# Altium schematic symbol library jlcpcb_capacitors_basic.schlib: 134 symbols (part 1 of 3)
Pins are listed as number, name and electrical type; pins without a type are passive.

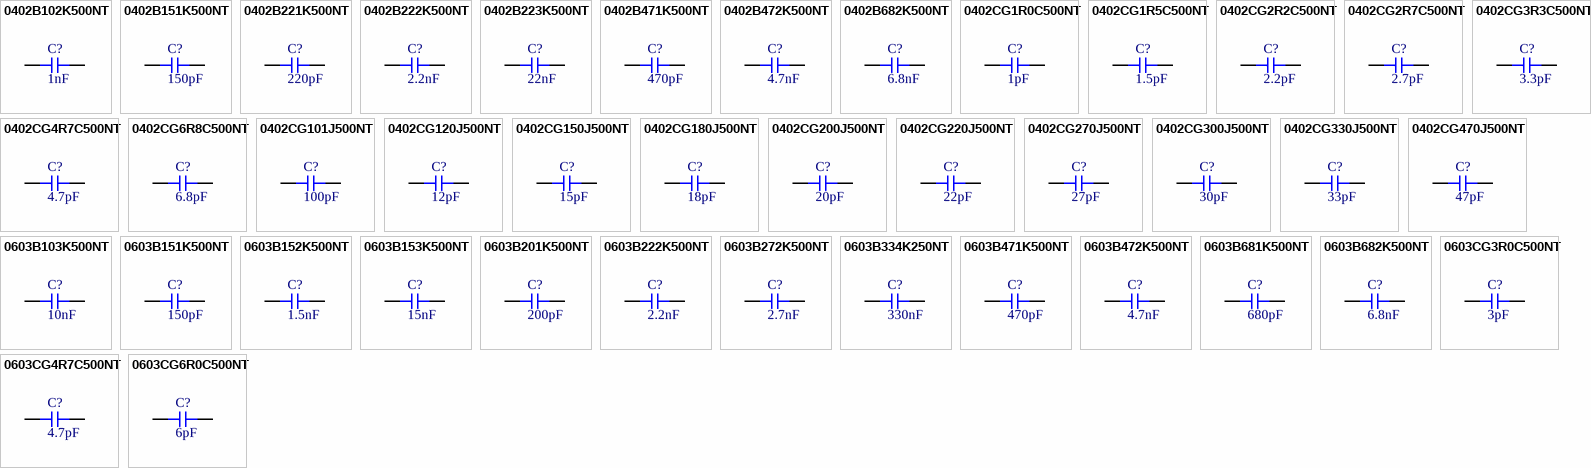
[diagram p0: symbols 0402B102K500NT to 0603CG6R0C500NT]

## 0402B102K500NT
designator C?  Capacitance: 1nF  (hidden comment: *)
Capacitor, Ceramic (MLCC), 1nF, ±10%, 50V, X7R, ±10%, SMD 0402; Manufacturer: FH(Guangdong Fenghua Advanced Tech); Manufacturer Part Number: 0402B102K500NT; Package Size: 0402; JLCPCB Basic Part: Yes; JLCPCB Part Number: C1523; Supplier 1: LCSC; Category: Capacitors - MLCC; Supplier Part Number 1: C1523; Tolerance: ±10%; Voltage Rating: 50V; Temperature Coefficient: X7R; RoHS: Yes; ComponentLink1Description: Datasheet; ComponentLink1URL: https://datasheet.lcsc.com/lcsc/1809291524_FH--Guangdong-Fenghua-Advanced-Tech-0402B102K500NT_C1523.pdf; ComponentLink2Description: JLCPCB Part URL; ComponentLink2URL: https://jlcpcb.com/partdetail/C1523; ComponentLink3Description: LCSC Part URL; ComponentLink3URL: https://lcsc.com/product-detail/Multilayer-Ceramic-Capacitors-MLCC---SMD-SMT_FH-Guangdong-Fenghua-Advanced-Tech-FH-Guangdong-Fenghua-Advanced-Tech-0402B102K500NT_C1523.html
footprint CAP-0402 (0402 (1005M) Capacitor)
pins: 1, 2

## 0402B151K500NT
designator C?  Capacitance: 150pF  (hidden comment: *)
Capacitor, Ceramic (MLCC), 150pF, ±10%, 50V, X7R, ±10%, SMD 0402; Manufacturer: FH(Guangdong Fenghua Advanced Tech); Manufacturer Part Number: 0402B151K500NT; Package Size: 0402; JLCPCB Basic Part: Yes; JLCPCB Part Number: C1527; Supplier 1: LCSC; Category: Capacitors - MLCC; Supplier Part Number 1: C1527; Tolerance: ±10%; Voltage Rating: 50V; Temperature Coefficient: X7R; RoHS: Yes; ComponentLink1Description: Datasheet; ComponentLink1URL: https://datasheet.lcsc.com/lcsc/1810302110_FH--Guangdong-Fenghua-Advanced-Tech-0402B151K500NT_C1527.pdf; ComponentLink2Description: JLCPCB Part URL; ComponentLink2URL: https://jlcpcb.com/partdetail/C1527; ComponentLink3Description: LCSC Part URL; ComponentLink3URL: https://lcsc.com/product-detail/Multilayer-Ceramic-Capacitors-MLCC---SMD-SMT_FH-Guangdong-Fenghua-Advanced-Tech-FH-Guangdong-Fenghua-Advanced-Tech-0402B151K500NT_C1527.html
footprint CAP-0402 (0402 (1005M) Capacitor)
pins: 1, 2

## 0402B221K500NT
designator C?  Capacitance: 220pF  (hidden comment: *)
Capacitor, Ceramic (MLCC), 220pF, ±10%, 50V, X7R, ±10%, SMD 0402; Manufacturer: FH(Guangdong Fenghua Advanced Tech); Manufacturer Part Number: 0402B221K500NT; Package Size: 0402; JLCPCB Basic Part: Yes; JLCPCB Part Number: C1530; Supplier 1: LCSC; Category: Capacitors - MLCC; Supplier Part Number 1: C1530; Tolerance: ±10%; Voltage Rating: 50V; Temperature Coefficient: X7R; RoHS: Yes; ComponentLink1Description: Datasheet; ComponentLink1URL: https://datasheet.lcsc.com/lcsc/1811151132_FH--Guangdong-Fenghua-Advanced-Tech-0402B221K500NT_C1530.pdf; ComponentLink2Description: JLCPCB Part URL; ComponentLink2URL: https://jlcpcb.com/partdetail/C1530; ComponentLink3Description: LCSC Part URL; ComponentLink3URL: https://lcsc.com/product-detail/Multilayer-Ceramic-Capacitors-MLCC---SMD-SMT_FH-Guangdong-Fenghua-Advanced-Tech-FH-Guangdong-Fenghua-Advanced-Tech-0402B221K500NT_C1530.html
footprint CAP-0402 (0402 (1005M) Capacitor)
pins: 1, 2

## 0402B222K500NT
designator C?  Capacitance: 2.2nF  (hidden comment: *)
Capacitor, Ceramic (MLCC), 2.2nF, ±10%, 50V, X7R, ±10%, SMD 0402; Manufacturer: FH(Guangdong Fenghua Advanced Tech); Manufacturer Part Number: 0402B222K500NT; Package Size: 0402; JLCPCB Basic Part: Yes; JLCPCB Part Number: C1531; Supplier 1: LCSC; Category: Capacitors - MLCC; Supplier Part Number 1: C1531; Tolerance: ±10%; Voltage Rating: 50V; Temperature Coefficient: X7R; RoHS: Yes; ComponentLink1Description: Datasheet; ComponentLink1URL: https://datasheet.lcsc.com/lcsc/1811141710_FH--Guangdong-Fenghua-Advanced-Tech-0402B222K500NT_C1531.pdf; ComponentLink2Description: JLCPCB Part URL; ComponentLink2URL: https://jlcpcb.com/partdetail/C1531; ComponentLink3Description: LCSC Part URL; ComponentLink3URL: https://lcsc.com/product-detail/Multilayer-Ceramic-Capacitors-MLCC---SMD-SMT_FH-Guangdong-Fenghua-Advanced-Tech-FH-Guangdong-Fenghua-Advanced-Tech-0402B222K500NT_C1531.html
footprint CAP-0402 (0402 (1005M) Capacitor)
pins: 1, 2

## 0402B223K500NT
designator C?  Capacitance: 22nF  (hidden comment: *)
Capacitor, Ceramic (MLCC), 22nF, ±10%, 50V, X7R, ±10%, SMD 0402; Manufacturer: FH(Guangdong Fenghua Advanced Tech); Manufacturer Part Number: 0402B223K500NT; Package Size: 0402; JLCPCB Basic Part: Yes; JLCPCB Part Number: C1532; Supplier 1: LCSC; Category: Capacitors - MLCC; Supplier Part Number 1: C1532; Tolerance: ±10%; Voltage Rating: 50V; Temperature Coefficient: X7R; RoHS: Yes; ComponentLink1Description: Datasheet; ComponentLink1URL: https://datasheet.lcsc.com/lcsc/1811141710_FH--Guangdong-Fenghua-Advanced-Tech-0402B223K500NT_C1532.pdf; ComponentLink2Description: JLCPCB Part URL; ComponentLink2URL: https://jlcpcb.com/partdetail/C1532; ComponentLink3Description: LCSC Part URL; ComponentLink3URL: https://lcsc.com/product-detail/Multilayer-Ceramic-Capacitors-MLCC---SMD-SMT_FH-Guangdong-Fenghua-Advanced-Tech-FH-Guangdong-Fenghua-Advanced-Tech-0402B223K500NT_C1532.html
footprint CAP-0402 (0402 (1005M) Capacitor)
pins: 1, 2

## 0402B471K500NT
designator C?  Capacitance: 470pF  (hidden comment: *)
Capacitor, Ceramic (MLCC), 470pF, ±10%, 50V, X7R, ±10%, SMD 0402; Manufacturer: FH(Guangdong Fenghua Advanced Tech); Manufacturer Part Number: 0402B471K500NT; Package Size: 0402; JLCPCB Basic Part: Yes; JLCPCB Part Number: C1537; Supplier 1: LCSC; Category: Capacitors - MLCC; Supplier Part Number 1: C1537; Tolerance: ±10%; Voltage Rating: 50V; Temperature Coefficient: X7R; RoHS: Yes; ComponentLink1Description: Datasheet; ComponentLink1URL: https://datasheet.lcsc.com/lcsc/1811141710_FH--Guangdong-Fenghua-Advanced-Tech-0402B471K500NT_C1537.pdf; ComponentLink2Description: JLCPCB Part URL; ComponentLink2URL: https://jlcpcb.com/partdetail/C1537; ComponentLink3Description: LCSC Part URL; ComponentLink3URL: https://lcsc.com/product-detail/Multilayer-Ceramic-Capacitors-MLCC---SMD-SMT_FH-Guangdong-Fenghua-Advanced-Tech-FH-Guangdong-Fenghua-Advanced-Tech-0402B471K500NT_C1537.html
footprint CAP-0402 (0402 (1005M) Capacitor)
pins: 1, 2

## 0402B472K500NT
designator C?  Capacitance: 4.7nF  (hidden comment: *)
Capacitor, Ceramic (MLCC), 4.7nF, ±10%, 50V, X7R, ±10%, SMD 0402; Manufacturer: FH(Guangdong Fenghua Advanced Tech); Manufacturer Part Number: 0402B472K500NT; Package Size: 0402; JLCPCB Basic Part: Yes; JLCPCB Part Number: C1538; Supplier 1: LCSC; Category: Capacitors - MLCC; Supplier Part Number 1: C1538; Tolerance: ±10%; Voltage Rating: 50V; Temperature Coefficient: X7R; RoHS: Yes; ComponentLink1Description: Datasheet; ComponentLink1URL: https://datasheet.lcsc.com/lcsc/1811031110_FH--Guangdong-Fenghua-Advanced-Tech-0402B472K500NT_C1538.pdf; ComponentLink2Description: JLCPCB Part URL; ComponentLink2URL: https://jlcpcb.com/partdetail/C1538; ComponentLink3Description: LCSC Part URL; ComponentLink3URL: https://lcsc.com/product-detail/Multilayer-Ceramic-Capacitors-MLCC---SMD-SMT_FH-Guangdong-Fenghua-Advanced-Tech-FH-Guangdong-Fenghua-Advanced-Tech-0402B472K500NT_C1538.html
footprint CAP-0402 (0402 (1005M) Capacitor)
pins: 1, 2

## 0402B682K500NT
designator C?  Capacitance: 6.8nF  (hidden comment: *)
Capacitor, Ceramic (MLCC), 6.8nF, ±10%, 50V, X7R, ±10%, SMD 0402; Manufacturer: FH(Guangdong Fenghua Advanced Tech); Manufacturer Part Number: 0402B682K500NT; Package Size: 0402; JLCPCB Basic Part: Yes; JLCPCB Part Number: C1542; Supplier 1: LCSC; Category: Capacitors - MLCC; Supplier Part Number 1: C1542; Tolerance: ±10%; Voltage Rating: 50V; Temperature Coefficient: X7R; RoHS: Yes; ComponentLink1Description: Datasheet; ComponentLink1URL: https://datasheet.lcsc.com/lcsc/1811141710_FH--Guangdong-Fenghua-Advanced-Tech-0402B682K500NT_C1542.pdf; ComponentLink2Description: JLCPCB Part URL; ComponentLink2URL: https://jlcpcb.com/partdetail/C1542; ComponentLink3Description: LCSC Part URL; ComponentLink3URL: https://lcsc.com/product-detail/Multilayer-Ceramic-Capacitors-MLCC---SMD-SMT_FH-Guangdong-Fenghua-Advanced-Tech-FH-Guangdong-Fenghua-Advanced-Tech-0402B682K500NT_C1542.html
footprint CAP-0402 (0402 (1005M) Capacitor)
pins: 1, 2

## 0402CG1R0C500NT
designator C?  Capacitance: 1pF  (hidden comment: *)
Capacitor, Ceramic (MLCC), 1pF, ±0.25pF, 50V, C0G, ±0.25pF, SMD 0402; Manufacturer: FH(Guangdong Fenghua Advanced Tech); Manufacturer Part Number: 0402CG1R0C500NT; Package Size: 0402; JLCPCB Basic Part: Yes; JLCPCB Part Number: C1550; Supplier 1: LCSC; Category: Capacitors - MLCC; Supplier Part Number 1: C1550; Tolerance: ±0.25pF; Voltage Rating: 50V; Temperature Coefficient: C0G; RoHS: Yes; ComponentLink1Description: Datasheet; ComponentLink1URL: https://datasheet.lcsc.com/lcsc/1811141710_FH--Guangdong-Fenghua-Advanced-Tech-0402CG1R0C500NT_C1550.pdf; ComponentLink2Description: JLCPCB Part URL; ComponentLink2URL: https://jlcpcb.com/partdetail/C1550; ComponentLink3Description: LCSC Part URL; ComponentLink3URL: https://lcsc.com/product-detail/Multilayer-Ceramic-Capacitors-MLCC---SMD-SMT_FH-Guangdong-Fenghua-Advanced-Tech-FH-Guangdong-Fenghua-Advanced-Tech-0402CG1R0C500NT_C1550.html
footprint CAP-0402 (0402 (1005M) Capacitor)
pins: 1, 2

## 0402CG1R5C500NT
designator C?  Capacitance: 1.5pF  (hidden comment: *)
Capacitor, Ceramic (MLCC), 1.5pF, ±0.25pF, 50V, C0G, ±0.25pF, SMD 0402; Manufacturer: FH(Guangdong Fenghua Advanced Tech); Manufacturer Part Number: 0402CG1R5C500NT; Package Size: 0402; JLCPCB Basic Part: Yes; JLCPCB Part Number: C1552; Supplier 1: LCSC; Category: Capacitors - MLCC; Supplier Part Number 1: C1552; Tolerance: ±0.25pF; Voltage Rating: 50V; Temperature Coefficient: C0G; RoHS: Yes; ComponentLink1Description: Datasheet; ComponentLink1URL: https://datasheet.lcsc.com/lcsc/1811151132_FH--Guangdong-Fenghua-Advanced-Tech-0402CG1R5C500NT_C1552.pdf; ComponentLink2Description: JLCPCB Part URL; ComponentLink2URL: https://jlcpcb.com/partdetail/C1552; ComponentLink3Description: LCSC Part URL; ComponentLink3URL: https://lcsc.com/product-detail/Multilayer-Ceramic-Capacitors-MLCC---SMD-SMT_FH-Guangdong-Fenghua-Advanced-Tech-FH-Guangdong-Fenghua-Advanced-Tech-0402CG1R5C500NT_C1552.html
footprint CAP-0402 (0402 (1005M) Capacitor)
pins: 1, 2

## 0402CG2R2C500NT
designator C?  Capacitance: 2.2pF  (hidden comment: *)
Capacitor, Ceramic (MLCC), 2.2pF, ±0.25pF, 50V, C0G, ±0.25pF, SMD 0402; Manufacturer: FH(Guangdong Fenghua Advanced Tech); Manufacturer Part Number: 0402CG2R2C500NT; Package Size: 0402; JLCPCB Basic Part: Yes; JLCPCB Part Number: C1559; Supplier 1: LCSC; Category: Capacitors - MLCC; Supplier Part Number 1: C1559; Tolerance: ±0.25pF; Voltage Rating: 50V; Temperature Coefficient: C0G; RoHS: Yes; ComponentLink1Description: Datasheet; ComponentLink1URL: https://datasheet.lcsc.com/lcsc/1811141843_FH--Guangdong-Fenghua-Advanced-Tech-0402CG2R2C500NT_C1559.pdf; ComponentLink2Description: JLCPCB Part URL; ComponentLink2URL: https://jlcpcb.com/partdetail/C1559; ComponentLink3Description: LCSC Part URL; ComponentLink3URL: https://lcsc.com/product-detail/Multilayer-Ceramic-Capacitors-MLCC---SMD-SMT_FH-Guangdong-Fenghua-Advanced-Tech-FH-Guangdong-Fenghua-Advanced-Tech-0402CG2R2C500NT_C1559.html
footprint CAP-0402 (0402 (1005M) Capacitor)
pins: 1, 2

## 0402CG2R7C500NT
designator C?  Capacitance: 2.7pF  (hidden comment: *)
Capacitor, Ceramic (MLCC), 2.7pF, ±0.25pF, 50V, C0G, ±0.25pF, SMD 0402; Manufacturer: FH(Guangdong Fenghua Advanced Tech); Manufacturer Part Number: 0402CG2R7C500NT; Package Size: 0402; JLCPCB Basic Part: Yes; JLCPCB Part Number: C1561; Supplier 1: LCSC; Category: Capacitors - MLCC; Supplier Part Number 1: C1561; Tolerance: ±0.25pF; Voltage Rating: 50V; Temperature Coefficient: C0G; RoHS: Yes; ComponentLink1Description: Datasheet; ComponentLink1URL: https://datasheet.lcsc.com/lcsc/1811141710_FH--Guangdong-Fenghua-Advanced-Tech-0402CG2R7C500NT_C1561.pdf; ComponentLink2Description: JLCPCB Part URL; ComponentLink2URL: https://jlcpcb.com/partdetail/C1561; ComponentLink3Description: LCSC Part URL; ComponentLink3URL: https://lcsc.com/product-detail/Multilayer-Ceramic-Capacitors-MLCC---SMD-SMT_FH-Guangdong-Fenghua-Advanced-Tech-FH-Guangdong-Fenghua-Advanced-Tech-0402CG2R7C500NT_C1561.html
footprint CAP-0402 (0402 (1005M) Capacitor)
pins: 1, 2

## 0402CG3R3C500NT
designator C?  Capacitance: 3.3pF  (hidden comment: *)
Capacitor, Ceramic (MLCC), 3.3pF, ±0.25pF, 50V, C0G, ±0.25pF, SMD 0402; Manufacturer: FH(Guangdong Fenghua Advanced Tech); Manufacturer Part Number: 0402CG3R3C500NT; Package Size: 0402; JLCPCB Basic Part: Yes; JLCPCB Part Number: C1565; Supplier 1: LCSC; Category: Capacitors - MLCC; Supplier Part Number 1: C1565; Tolerance: ±0.25pF; Voltage Rating: 50V; Temperature Coefficient: C0G; RoHS: Yes; ComponentLink1Description: Datasheet; ComponentLink1URL: https://datasheet.lcsc.com/lcsc/1811141710_FH--Guangdong-Fenghua-Advanced-Tech-0402CG3R3C500NT_C1565.pdf; ComponentLink2Description: JLCPCB Part URL; ComponentLink2URL: https://jlcpcb.com/partdetail/C1565; ComponentLink3Description: LCSC Part URL; ComponentLink3URL: https://lcsc.com/product-detail/Multilayer-Ceramic-Capacitors-MLCC---SMD-SMT_FH-Guangdong-Fenghua-Advanced-Tech-FH-Guangdong-Fenghua-Advanced-Tech-0402CG3R3C500NT_C1565.html
footprint CAP-0402 (0402 (1005M) Capacitor)
pins: 1, 2

## 0402CG4R7C500NT
designator C?  Capacitance: 4.7pF  (hidden comment: *)
Capacitor, Ceramic (MLCC), 4.7pF, ±0.25pF, 50V, C0G, ±0.25pF, SMD 0402; Manufacturer: FH(Guangdong Fenghua Advanced Tech); Manufacturer Part Number: 0402CG4R7C500NT; Package Size: 0402; JLCPCB Basic Part: Yes; JLCPCB Part Number: C1569; Supplier 1: LCSC; Category: Capacitors - MLCC; Supplier Part Number 1: C1569; Tolerance: ±0.25pF; Voltage Rating: 50V; Temperature Coefficient: C0G; RoHS: Yes; ComponentLink1Description: Datasheet; ComponentLink1URL: https://datasheet.lcsc.com/lcsc/1811141710_FH--Guangdong-Fenghua-Advanced-Tech-0402CG4R7C500NT_C1569.pdf; ComponentLink2Description: JLCPCB Part URL; ComponentLink2URL: https://jlcpcb.com/partdetail/C1569; ComponentLink3Description: LCSC Part URL; ComponentLink3URL: https://lcsc.com/product-detail/Multilayer-Ceramic-Capacitors-MLCC---SMD-SMT_FH-Guangdong-Fenghua-Advanced-Tech-FH-Guangdong-Fenghua-Advanced-Tech-0402CG4R7C500NT_C1569.html
footprint CAP-0402 (0402 (1005M) Capacitor)
pins: 1, 2

## 0402CG6R8C500NT
designator C?  Capacitance: 6.8pF  (hidden comment: *)
Capacitor, Ceramic (MLCC), 6.8pF, ±0.25pF, 50V, C0G, ±0.25pF, SMD 0402; Manufacturer: FH(Guangdong Fenghua Advanced Tech); Manufacturer Part Number: 0402CG6R8C500NT; Package Size: 0402; JLCPCB Basic Part: Yes; JLCPCB Part Number: C1576; Supplier 1: LCSC; Category: Capacitors - MLCC; Supplier Part Number 1: C1576; Tolerance: ±0.25pF; Voltage Rating: 50V; Temperature Coefficient: C0G; RoHS: Yes; ComponentLink1Description: Datasheet; ComponentLink1URL: https://datasheet.lcsc.com/lcsc/1811141710_FH--Guangdong-Fenghua-Advanced-Tech-0402CG6R8C500NT_C1576.pdf; ComponentLink2Description: JLCPCB Part URL; ComponentLink2URL: https://jlcpcb.com/partdetail/C1576; ComponentLink3Description: LCSC Part URL; ComponentLink3URL: https://lcsc.com/product-detail/Multilayer-Ceramic-Capacitors-MLCC---SMD-SMT_FH-Guangdong-Fenghua-Advanced-Tech-FH-Guangdong-Fenghua-Advanced-Tech-0402CG6R8C500NT_C1576.html
footprint CAP-0402 (0402 (1005M) Capacitor)
pins: 1, 2

## 0402CG101J500NT
designator C?  Capacitance: 100pF  (hidden comment: *)
Capacitor, Ceramic (MLCC), 100pF, ±5%, 50V, C0G, ±5%, SMD 0402; Manufacturer: FH(Guangdong Fenghua Advanced Tech); Manufacturer Part Number: 0402CG101J500NT; Package Size: 0402; JLCPCB Basic Part: Yes; JLCPCB Part Number: C1546; Supplier 1: LCSC; Category: Capacitors - MLCC; Supplier Part Number 1: C1546; Tolerance: ±5%; Voltage Rating: 50V; Temperature Coefficient: C0G; RoHS: Yes; ComponentLink1Description: Datasheet; ComponentLink1URL: https://datasheet.lcsc.com/lcsc/1810151218_FH--Guangdong-Fenghua-Advanced-Tech-0402CG101J500NT_C1546.pdf; ComponentLink2Description: JLCPCB Part URL; ComponentLink2URL: https://jlcpcb.com/partdetail/C1546; ComponentLink3Description: LCSC Part URL; ComponentLink3URL: https://lcsc.com/product-detail/Multilayer-Ceramic-Capacitors-MLCC---SMD-SMT_FH-Guangdong-Fenghua-Advanced-Tech-FH-Guangdong-Fenghua-Advanced-Tech-0402CG101J500NT_C1546.html
footprint CAP-0402 (0402 (1005M) Capacitor)
pins: 1, 2

## 0402CG120J500NT
designator C?  Capacitance: 12pF  (hidden comment: *)
Capacitor, Ceramic (MLCC), 12pF, ±5%, 50V, C0G, ±5%, SMD 0402; Manufacturer: FH(Guangdong Fenghua Advanced Tech); Manufacturer Part Number: 0402CG120J500NT; Package Size: 0402; JLCPCB Basic Part: Yes; JLCPCB Part Number: C1547; Supplier 1: LCSC; Category: Capacitors - MLCC; Supplier Part Number 1: C1547; Tolerance: ±5%; Voltage Rating: 50V; Temperature Coefficient: C0G; RoHS: Yes; ComponentLink1Description: Datasheet; ComponentLink1URL: https://datasheet.lcsc.com/lcsc/1811141710_FH--Guangdong-Fenghua-Advanced-Tech-0402CG120J500NT_C1547.pdf; ComponentLink2Description: JLCPCB Part URL; ComponentLink2URL: https://jlcpcb.com/partdetail/C1547; ComponentLink3Description: LCSC Part URL; ComponentLink3URL: https://lcsc.com/product-detail/Multilayer-Ceramic-Capacitors-MLCC---SMD-SMT_FH-Guangdong-Fenghua-Advanced-Tech-FH-Guangdong-Fenghua-Advanced-Tech-0402CG120J500NT_C1547.html
footprint CAP-0402 (0402 (1005M) Capacitor)
pins: 1, 2

## 0402CG150J500NT
designator C?  Capacitance: 15pF  (hidden comment: *)
Capacitor, Ceramic (MLCC), 15pF, ±5%, 50V, C0G, ±5%, SMD 0402; Manufacturer: FH(Guangdong Fenghua Advanced Tech); Manufacturer Part Number: 0402CG150J500NT; Package Size: 0402; JLCPCB Basic Part: Yes; JLCPCB Part Number: C1548; Supplier 1: LCSC; Category: Capacitors - MLCC; Supplier Part Number 1: C1548; Tolerance: ±5%; Voltage Rating: 50V; Temperature Coefficient: C0G; RoHS: Yes; ComponentLink1Description: Datasheet; ComponentLink1URL: https://datasheet.lcsc.com/lcsc/1810111610_FH--Guangdong-Fenghua-Advanced-Tech-0402CG150J500NT_C1548.pdf; ComponentLink2Description: JLCPCB Part URL; ComponentLink2URL: https://jlcpcb.com/partdetail/C1548; ComponentLink3Description: LCSC Part URL; ComponentLink3URL: https://lcsc.com/product-detail/Multilayer-Ceramic-Capacitors-MLCC---SMD-SMT_FH-Guangdong-Fenghua-Advanced-Tech-FH-Guangdong-Fenghua-Advanced-Tech-0402CG150J500NT_C1548.html
footprint CAP-0402 (0402 (1005M) Capacitor)
pins: 1, 2

## 0402CG180J500NT
designator C?  Capacitance: 18pF  (hidden comment: *)
Capacitor, Ceramic (MLCC), 18pF, ±5%, 50V, C0G, ±5%, SMD 0402; Manufacturer: FH(Guangdong Fenghua Advanced Tech); Manufacturer Part Number: 0402CG180J500NT; Package Size: 0402; JLCPCB Basic Part: Yes; JLCPCB Part Number: C1549; Supplier 1: LCSC; Category: Capacitors - MLCC; Supplier Part Number 1: C1549; Tolerance: ±5%; Voltage Rating: 50V; Temperature Coefficient: C0G; RoHS: Yes; ComponentLink1Description: Datasheet; ComponentLink1URL: https://datasheet.lcsc.com/lcsc/1811141814_FH--Guangdong-Fenghua-Advanced-Tech-0402CG180J500NT_C1549.pdf; ComponentLink2Description: JLCPCB Part URL; ComponentLink2URL: https://jlcpcb.com/partdetail/C1549; ComponentLink3Description: LCSC Part URL; ComponentLink3URL: https://lcsc.com/product-detail/Multilayer-Ceramic-Capacitors-MLCC---SMD-SMT_FH-Guangdong-Fenghua-Advanced-Tech-FH-Guangdong-Fenghua-Advanced-Tech-0402CG180J500NT_C1549.html
footprint CAP-0402 (0402 (1005M) Capacitor)
pins: 1, 2

## 0402CG200J500NT
designator C?  Capacitance: 20pF  (hidden comment: *)
Capacitor, Ceramic (MLCC), 20pF, ±5%, 50V, C0G, ±5%, SMD 0402; Manufacturer: FH(Guangdong Fenghua Advanced Tech); Manufacturer Part Number: 0402CG200J500NT; Package Size: 0402; JLCPCB Basic Part: Yes; JLCPCB Part Number: C1554; Supplier 1: LCSC; Category: Capacitors - MLCC; Supplier Part Number 1: C1554; Tolerance: ±5%; Voltage Rating: 50V; Temperature Coefficient: C0G; RoHS: Yes; ComponentLink1Description: Datasheet; ComponentLink1URL: https://datasheet.lcsc.com/lcsc/1811141710_FH--Guangdong-Fenghua-Advanced-Tech-0402CG200J500NT_C1554.pdf; ComponentLink2Description: JLCPCB Part URL; ComponentLink2URL: https://jlcpcb.com/partdetail/C1554; ComponentLink3Description: LCSC Part URL; ComponentLink3URL: https://lcsc.com/product-detail/Multilayer-Ceramic-Capacitors-MLCC---SMD-SMT_FH-Guangdong-Fenghua-Advanced-Tech-FH-Guangdong-Fenghua-Advanced-Tech-0402CG200J500NT_C1554.html
footprint CAP-0402 (0402 (1005M) Capacitor)
pins: 1, 2

## 0402CG220J500NT
designator C?  Capacitance: 22pF  (hidden comment: *)
Capacitor, Ceramic (MLCC), 22pF, ±5%, 50V, C0G, ±5%, SMD 0402; Manufacturer: FH(Guangdong Fenghua Advanced Tech); Manufacturer Part Number: 0402CG220J500NT; Package Size: 0402; JLCPCB Basic Part: Yes; JLCPCB Part Number: C1555; Supplier 1: LCSC; Category: Capacitors - MLCC; Supplier Part Number 1: C1555; Tolerance: ±5%; Voltage Rating: 50V; Temperature Coefficient: C0G; RoHS: Yes; ComponentLink1Description: Datasheet; ComponentLink1URL: https://datasheet.lcsc.com/lcsc/1811141710_FH--Guangdong-Fenghua-Advanced-Tech-0402CG220J500NT_C1555.pdf; ComponentLink2Description: JLCPCB Part URL; ComponentLink2URL: https://jlcpcb.com/partdetail/C1555; ComponentLink3Description: LCSC Part URL; ComponentLink3URL: https://lcsc.com/product-detail/Multilayer-Ceramic-Capacitors-MLCC---SMD-SMT_FH-Guangdong-Fenghua-Advanced-Tech-FH-Guangdong-Fenghua-Advanced-Tech-0402CG220J500NT_C1555.html
footprint CAP-0402 (0402 (1005M) Capacitor)
pins: 1, 2

## 0402CG270J500NT
designator C?  Capacitance: 27pF  (hidden comment: *)
Capacitor, Ceramic (MLCC), 27pF, ±5%, 50V, C0G, ±5%, SMD 0402; Manufacturer: FH(Guangdong Fenghua Advanced Tech); Manufacturer Part Number: 0402CG270J500NT; Package Size: 0402; JLCPCB Basic Part: Yes; JLCPCB Part Number: C1557; Supplier 1: LCSC; Category: Capacitors - MLCC; Supplier Part Number 1: C1557; Tolerance: ±5%; Voltage Rating: 50V; Temperature Coefficient: C0G; RoHS: Yes; ComponentLink1Description: Datasheet; ComponentLink1URL: https://datasheet.lcsc.com/lcsc/1811141710_FH--Guangdong-Fenghua-Advanced-Tech-0402CG270J500NT_C1557.pdf; ComponentLink2Description: JLCPCB Part URL; ComponentLink2URL: https://jlcpcb.com/partdetail/C1557; ComponentLink3Description: LCSC Part URL; ComponentLink3URL: https://lcsc.com/product-detail/Multilayer-Ceramic-Capacitors-MLCC---SMD-SMT_FH-Guangdong-Fenghua-Advanced-Tech-FH-Guangdong-Fenghua-Advanced-Tech-0402CG270J500NT_C1557.html
footprint CAP-0402 (0402 (1005M) Capacitor)
pins: 1, 2

## 0402CG300J500NT
designator C?  Capacitance: 30pF  (hidden comment: *)
Capacitor, Ceramic (MLCC), 30pF, ±5%, 50V, C0G, ±5%, SMD 0402; Manufacturer: FH(Guangdong Fenghua Advanced Tech); Manufacturer Part Number: 0402CG300J500NT; Package Size: 0402; JLCPCB Basic Part: Yes; JLCPCB Part Number: C1570; Supplier 1: LCSC; Category: Capacitors - MLCC; Supplier Part Number 1: C1570; Tolerance: ±5%; Voltage Rating: 50V; Temperature Coefficient: C0G; RoHS: Yes; ComponentLink1Description: Datasheet; ComponentLink1URL: https://datasheet.lcsc.com/lcsc/1811141710_FH--Guangdong-Fenghua-Advanced-Tech-0402CG300J500NT_C1570.pdf; ComponentLink2Description: JLCPCB Part URL; ComponentLink2URL: https://jlcpcb.com/partdetail/C1570; ComponentLink3Description: LCSC Part URL; ComponentLink3URL: https://lcsc.com/product-detail/Multilayer-Ceramic-Capacitors-MLCC---SMD-SMT_FH-Guangdong-Fenghua-Advanced-Tech-FH-Guangdong-Fenghua-Advanced-Tech-0402CG300J500NT_C1570.html
footprint CAP-0402 (0402 (1005M) Capacitor)
pins: 1, 2

## 0402CG330J500NT
designator C?  Capacitance: 33pF  (hidden comment: *)
Capacitor, Ceramic (MLCC), 33pF, ±5%, 50V, C0G, ±5%, SMD 0402; Manufacturer: FH(Guangdong Fenghua Advanced Tech); Manufacturer Part Number: 0402CG330J500NT; Package Size: 0402; JLCPCB Basic Part: Yes; JLCPCB Part Number: C1562; Supplier 1: LCSC; Category: Capacitors - MLCC; Supplier Part Number 1: C1562; Tolerance: ±5%; Voltage Rating: 50V; Temperature Coefficient: C0G; RoHS: Yes; ComponentLink1Description: Datasheet; ComponentLink1URL: https://datasheet.lcsc.com/lcsc/1811141731_FH--Guangdong-Fenghua-Advanced-Tech-0402CG330J500NT_C1562.pdf; ComponentLink2Description: JLCPCB Part URL; ComponentLink2URL: https://jlcpcb.com/partdetail/C1562; ComponentLink3Description: LCSC Part URL; ComponentLink3URL: https://lcsc.com/product-detail/Multilayer-Ceramic-Capacitors-MLCC---SMD-SMT_FH-Guangdong-Fenghua-Advanced-Tech-FH-Guangdong-Fenghua-Advanced-Tech-0402CG330J500NT_C1562.html
footprint CAP-0402 (0402 (1005M) Capacitor)
pins: 1, 2

## 0402CG470J500NT
designator C?  Capacitance: 47pF  (hidden comment: *)
Capacitor, Ceramic (MLCC), 47pF, ±5%, 50V, C0G, ±5%, SMD 0402; Manufacturer: FH(Guangdong Fenghua Advanced Tech); Manufacturer Part Number: 0402CG470J500NT; Package Size: 0402; JLCPCB Basic Part: Yes; JLCPCB Part Number: C1567; Supplier 1: LCSC; Category: Capacitors - MLCC; Supplier Part Number 1: C1567; Tolerance: ±5%; Voltage Rating: 50V; Temperature Coefficient: C0G; RoHS: Yes; ComponentLink1Description: Datasheet; ComponentLink1URL: https://datasheet.lcsc.com/lcsc/1811151132_FH--Guangdong-Fenghua-Advanced-Tech-0402CG470J500NT_C1567.pdf; ComponentLink2Description: JLCPCB Part URL; ComponentLink2URL: https://jlcpcb.com/partdetail/C1567; ComponentLink3Description: LCSC Part URL; ComponentLink3URL: https://lcsc.com/product-detail/Multilayer-Ceramic-Capacitors-MLCC---SMD-SMT_FH-Guangdong-Fenghua-Advanced-Tech-FH-Guangdong-Fenghua-Advanced-Tech-0402CG470J500NT_C1567.html
footprint CAP-0402 (0402 (1005M) Capacitor)
pins: 1, 2

## 0603B103K500NT
designator C?  Capacitance: 10nF  (hidden comment: *)
Capacitor, Ceramic (MLCC), 10nF, ±10%, 50V, X7R, ±10%, SMD 0603; Manufacturer: FH(Guangdong Fenghua Advanced Tech); Manufacturer Part Number: 0603B103K500NT; Package Size: 0603; JLCPCB Basic Part: Yes; JLCPCB Part Number: C57112; Supplier 1: LCSC; Category: Capacitors - MLCC; Supplier Part Number 1: C57112; Tolerance: ±10%; Voltage Rating: 50V; Temperature Coefficient: X7R; RoHS: Yes; ComponentLink1Description: Datasheet; ComponentLink1URL: https://datasheet.lcsc.com/lcsc/2102081402_FH--Guangdong-Fenghua-Advanced-Tech-0603B103K500NT_C57112.pdf; ComponentLink2Description: JLCPCB Part URL; ComponentLink2URL: https://jlcpcb.com/partdetail/C57112; ComponentLink3Description: LCSC Part URL; ComponentLink3URL: https://lcsc.com/product-detail/Multilayer-Ceramic-Capacitors-MLCC---SMD-SMT_FH-Guangdong-Fenghua-Advanced-Tech-FH-Guangdong-Fenghua-Advanced-Tech-0603B103K500NT_C57112.html
footprint CAP-0603 (0603 (1608M) Capacitor)
pins: 1, 2

## 0603B151K500NT
designator C?  Capacitance: 150pF  (hidden comment: *)
Capacitor, Ceramic (MLCC), 150pF, ±10%, 50V, X7R, ±10%, SMD 0603; Manufacturer: FH(Guangdong Fenghua Advanced Tech); Manufacturer Part Number: 0603B151K500NT; Package Size: 0603; JLCPCB Basic Part: Yes; JLCPCB Part Number: C1594; Supplier 1: LCSC; Category: Capacitors - MLCC; Supplier Part Number 1: C1594; Tolerance: ±10%; Voltage Rating: 50V; Temperature Coefficient: X7R; RoHS: Yes; ComponentLink1Description: Datasheet; ComponentLink1URL: https://datasheet.lcsc.com/lcsc/1811061810_FH--Guangdong-Fenghua-Advanced-Tech-0603B151K500NT_C1594.pdf; ComponentLink2Description: JLCPCB Part URL; ComponentLink2URL: https://jlcpcb.com/partdetail/C1594; ComponentLink3Description: LCSC Part URL; ComponentLink3URL: https://lcsc.com/product-detail/Multilayer-Ceramic-Capacitors-MLCC---SMD-SMT_FH-Guangdong-Fenghua-Advanced-Tech-FH-Guangdong-Fenghua-Advanced-Tech-0603B151K500NT_C1594.html
footprint CAP-0603 (0603 (1608M) Capacitor)
pins: 1, 2

## 0603B152K500NT
designator C?  Capacitance: 1.5nF  (hidden comment: *)
Capacitor, Ceramic (MLCC), 1.5nF, ±10%, 50V, X7R, ±10%, SMD 0603; Manufacturer: FH(Guangdong Fenghua Advanced Tech); Manufacturer Part Number: 0603B152K500NT; Package Size: 0603; JLCPCB Basic Part: Yes; JLCPCB Part Number: C1595; Supplier 1: LCSC; Category: Capacitors - MLCC; Supplier Part Number 1: C1595; Tolerance: ±10%; Voltage Rating: 50V; Temperature Coefficient: X7R; RoHS: Yes; ComponentLink1Description: Datasheet; ComponentLink1URL: https://datasheet.lcsc.com/lcsc/1811061810_FH--Guangdong-Fenghua-Advanced-Tech-0603B152K500NT_C1595.pdf; ComponentLink2Description: JLCPCB Part URL; ComponentLink2URL: https://jlcpcb.com/partdetail/C1595; ComponentLink3Description: LCSC Part URL; ComponentLink3URL: https://lcsc.com/product-detail/Multilayer-Ceramic-Capacitors-MLCC---SMD-SMT_FH-Guangdong-Fenghua-Advanced-Tech-FH-Guangdong-Fenghua-Advanced-Tech-0603B152K500NT_C1595.html
footprint CAP-0603 (0603 (1608M) Capacitor)
pins: 1, 2

## 0603B153K500NT
designator C?  Capacitance: 15nF  (hidden comment: *)
Capacitor, Ceramic (MLCC), 15nF, ±10%, 50V, X7R, ±10%, SMD 0603; Manufacturer: FH(Guangdong Fenghua Advanced Tech); Manufacturer Part Number: 0603B153K500NT; Package Size: 0603; JLCPCB Basic Part: Yes; JLCPCB Part Number: C1596; Supplier 1: LCSC; Category: Capacitors - MLCC; Supplier Part Number 1: C1596; Tolerance: ±10%; Voltage Rating: 50V; Temperature Coefficient: X7R; RoHS: Yes; ComponentLink1Description: Datasheet; ComponentLink1URL: https://datasheet.lcsc.com/lcsc/1811061810_FH--Guangdong-Fenghua-Advanced-Tech-0603B153K500NT_C1596.pdf; ComponentLink2Description: JLCPCB Part URL; ComponentLink2URL: https://jlcpcb.com/partdetail/C1596; ComponentLink3Description: LCSC Part URL; ComponentLink3URL: https://lcsc.com/product-detail/Multilayer-Ceramic-Capacitors-MLCC---SMD-SMT_FH-Guangdong-Fenghua-Advanced-Tech-FH-Guangdong-Fenghua-Advanced-Tech-0603B153K500NT_C1596.html
footprint CAP-0603 (0603 (1608M) Capacitor)
pins: 1, 2

## 0603B201K500NT
designator C?  Capacitance: 200pF  (hidden comment: *)
Capacitor, Ceramic (MLCC), 200pF, ±10%, 50V, X7R, ±10%, SMD 0603; Manufacturer: FH(Guangdong Fenghua Advanced Tech); Manufacturer Part Number: 0603B201K500NT; Package Size: 0603; JLCPCB Basic Part: Yes; JLCPCB Part Number: C1600; Supplier 1: LCSC; Category: Capacitors - MLCC; Supplier Part Number 1: C1600; Tolerance: ±10%; Voltage Rating: 50V; Temperature Coefficient: X7R; RoHS: Yes; ComponentLink1Description: Datasheet; ComponentLink1URL: https://datasheet.lcsc.com/lcsc/1811061810_FH--Guangdong-Fenghua-Advanced-Tech-0603B201K500NT_C1600.pdf; ComponentLink2Description: JLCPCB Part URL; ComponentLink2URL: https://jlcpcb.com/partdetail/C1600; ComponentLink3Description: LCSC Part URL; ComponentLink3URL: https://lcsc.com/product-detail/Multilayer-Ceramic-Capacitors-MLCC---SMD-SMT_FH-Guangdong-Fenghua-Advanced-Tech-FH-Guangdong-Fenghua-Advanced-Tech-0603B201K500NT_C1600.html
footprint CAP-0603 (0603 (1608M) Capacitor)
pins: 1, 2

## 0603B222K500NT
designator C?  Capacitance: 2.2nF  (hidden comment: *)
Capacitor, Ceramic (MLCC), 2.2nF, ±10%, 50V, X7R, ±10%, SMD 0603; Manufacturer: FH(Guangdong Fenghua Advanced Tech); Manufacturer Part Number: 0603B222K500NT; Package Size: 0603; JLCPCB Basic Part: Yes; JLCPCB Part Number: C1604; Supplier 1: LCSC; Category: Capacitors - MLCC; Supplier Part Number 1: C1604; Tolerance: ±10%; Voltage Rating: 50V; Temperature Coefficient: X7R; RoHS: Yes; ComponentLink1Description: Datasheet; ComponentLink1URL: https://datasheet.lcsc.com/lcsc/1810301614_FH--Guangdong-Fenghua-Advanced-Tech-0603B222K500NT_C1604.pdf; ComponentLink2Description: JLCPCB Part URL; ComponentLink2URL: https://jlcpcb.com/partdetail/C1604; ComponentLink3Description: LCSC Part URL; ComponentLink3URL: https://lcsc.com/product-detail/Multilayer-Ceramic-Capacitors-MLCC---SMD-SMT_FH-Guangdong-Fenghua-Advanced-Tech-FH-Guangdong-Fenghua-Advanced-Tech-0603B222K500NT_C1604.html
footprint CAP-0603 (0603 (1608M) Capacitor)
pins: 1, 2

## 0603B272K500NT
designator C?  Capacitance: 2.7nF  (hidden comment: *)
Capacitor, Ceramic (MLCC), 2.7nF, ±10%, 50V, X7R, ±10%, SMD 0603; Manufacturer: FH(Guangdong Fenghua Advanced Tech); Manufacturer Part Number: 0603B272K500NT; Package Size: 0603; JLCPCB Basic Part: Yes; JLCPCB Part Number: C1609; Supplier 1: LCSC; Category: Capacitors - MLCC; Supplier Part Number 1: C1609; Tolerance: ±10%; Voltage Rating: 50V; Temperature Coefficient: X7R; RoHS: Yes; ComponentLink1Description: Datasheet; ComponentLink1URL: https://datasheet.lcsc.com/lcsc/1811151136_FH--Guangdong-Fenghua-Advanced-Tech-0603B272K500NT_C1609.pdf; ComponentLink2Description: JLCPCB Part URL; ComponentLink2URL: https://jlcpcb.com/partdetail/C1609; ComponentLink3Description: LCSC Part URL; ComponentLink3URL: https://lcsc.com/product-detail/Multilayer-Ceramic-Capacitors-MLCC---SMD-SMT_FH-Guangdong-Fenghua-Advanced-Tech-FH-Guangdong-Fenghua-Advanced-Tech-0603B272K500NT_C1609.html
footprint CAP-0603 (0603 (1608M) Capacitor)
pins: 1, 2

## 0603B334K250NT
designator C?  Capacitance: 330nF  (hidden comment: *)
Capacitor, Ceramic (MLCC), 330nF, ±10%, 25V, X7R, ±10%, SMD 0603; Manufacturer: FH(Guangdong Fenghua Advanced Tech); Manufacturer Part Number: 0603B334K250NT; Package Size: 0603; JLCPCB Basic Part: Yes; JLCPCB Part Number: C1615; Supplier 1: LCSC; Category: Capacitors - MLCC; Supplier Part Number 1: C1615; Tolerance: ±10%; Voltage Rating: 25V; Temperature Coefficient: X7R; RoHS: Yes; ComponentLink1Description: Datasheet; ComponentLink1URL: https://datasheet.lcsc.com/lcsc/1811061811_FH--Guangdong-Fenghua-Advanced-Tech-0603B334K250NT_C1615.pdf; ComponentLink2Description: JLCPCB Part URL; ComponentLink2URL: https://jlcpcb.com/partdetail/C1615; ComponentLink3Description: LCSC Part URL; ComponentLink3URL: https://lcsc.com/product-detail/Multilayer-Ceramic-Capacitors-MLCC---SMD-SMT_FH-Guangdong-Fenghua-Advanced-Tech-FH-Guangdong-Fenghua-Advanced-Tech-0603B334K250NT_C1615.html
footprint CAP-0603 (0603 (1608M) Capacitor)
pins: 1, 2

## 0603B471K500NT
designator C?  Capacitance: 470pF  (hidden comment: *)
Capacitor, Ceramic (MLCC), 470pF, ±10%, 50V, X7R, ±10%, SMD 0603; Manufacturer: FH(Guangdong Fenghua Advanced Tech); Manufacturer Part Number: 0603B471K500NT; Package Size: 0603; JLCPCB Basic Part: Yes; JLCPCB Part Number: C1620; Supplier 1: LCSC; Category: Capacitors - MLCC; Supplier Part Number 1: C1620; Tolerance: ±10%; Voltage Rating: 50V; Temperature Coefficient: X7R; RoHS: Yes; ComponentLink1Description: Datasheet; ComponentLink1URL: https://datasheet.lcsc.com/lcsc/1810302011_FH--Guangdong-Fenghua-Advanced-Tech-0603B471K500NT_C1620.pdf; ComponentLink2Description: JLCPCB Part URL; ComponentLink2URL: https://jlcpcb.com/partdetail/C1620; ComponentLink3Description: LCSC Part URL; ComponentLink3URL: https://lcsc.com/product-detail/Multilayer-Ceramic-Capacitors-MLCC---SMD-SMT_FH-Guangdong-Fenghua-Advanced-Tech-FH-Guangdong-Fenghua-Advanced-Tech-0603B471K500NT_C1620.html
footprint CAP-0603 (0603 (1608M) Capacitor)
pins: 1, 2

## 0603B472K500NT
designator C?  Capacitance: 4.7nF  (hidden comment: *)
Capacitor, Ceramic (MLCC), 4.7nF, ±10%, 50V, X7R, ±10%, SMD 0603; Manufacturer: FH(Guangdong Fenghua Advanced Tech); Manufacturer Part Number: 0603B472K500NT; Package Size: 0603; JLCPCB Basic Part: Yes; JLCPCB Part Number: C53987; Supplier 1: LCSC; Category: Capacitors - MLCC; Supplier Part Number 1: C53987; Tolerance: ±10%; Voltage Rating: 50V; Temperature Coefficient: X7R; RoHS: Yes; ComponentLink1Description: Datasheet; ComponentLink1URL: https://datasheet.lcsc.com/lcsc/1811061811_FH--Guangdong-Fenghua-Advanced-Tech-0603B472K500NT_C53987.pdf; ComponentLink2Description: JLCPCB Part URL; ComponentLink2URL: https://jlcpcb.com/partdetail/C53987; ComponentLink3Description: LCSC Part URL; ComponentLink3URL: https://lcsc.com/product-detail/Multilayer-Ceramic-Capacitors-MLCC---SMD-SMT_FH-Guangdong-Fenghua-Advanced-Tech-FH-Guangdong-Fenghua-Advanced-Tech-0603B472K500NT_C53987.html
footprint CAP-0603 (0603 (1608M) Capacitor)
pins: 1, 2

## 0603B681K500NT
designator C?  Capacitance: 680pF  (hidden comment: *)
Capacitor, Ceramic (MLCC), 680pF, ±10%, 50V, X7R, ±10%, SMD 0603; Manufacturer: FH(Guangdong Fenghua Advanced Tech); Manufacturer Part Number: 0603B681K500NT; Package Size: 0603; JLCPCB Basic Part: Yes; JLCPCB Part Number: C1630; Supplier 1: LCSC; Category: Capacitors - MLCC; Supplier Part Number 1: C1630; Tolerance: ±10%; Voltage Rating: 50V; Temperature Coefficient: X7R; RoHS: Yes; ComponentLink1Description: Datasheet; ComponentLink1URL: https://datasheet.lcsc.com/lcsc/1811061822_FH--Guangdong-Fenghua-Advanced-Tech-0603B681K500NT_C1630.pdf; ComponentLink2Description: JLCPCB Part URL; ComponentLink2URL: https://jlcpcb.com/partdetail/C1630; ComponentLink3Description: LCSC Part URL; ComponentLink3URL: https://lcsc.com/product-detail/Multilayer-Ceramic-Capacitors-MLCC---SMD-SMT_FH-Guangdong-Fenghua-Advanced-Tech-FH-Guangdong-Fenghua-Advanced-Tech-0603B681K500NT_C1630.html
footprint CAP-0603 (0603 (1608M) Capacitor)
pins: 1, 2

## 0603B682K500NT
designator C?  Capacitance: 6.8nF  (hidden comment: *)
Capacitor, Ceramic (MLCC), 6.8nF, ±10%, 50V, X7R, ±10%, SMD 0603; Manufacturer: FH(Guangdong Fenghua Advanced Tech); Manufacturer Part Number: 0603B682K500NT; Package Size: 0603; JLCPCB Basic Part: Yes; JLCPCB Part Number: C1631; Supplier 1: LCSC; Category: Capacitors - MLCC; Supplier Part Number 1: C1631; Tolerance: ±10%; Voltage Rating: 50V; Temperature Coefficient: X7R; RoHS: Yes; ComponentLink1Description: Datasheet; ComponentLink1URL: https://datasheet.lcsc.com/lcsc/1811061811_FH--Guangdong-Fenghua-Advanced-Tech-0603B682K500NT_C1631.pdf; ComponentLink2Description: JLCPCB Part URL; ComponentLink2URL: https://jlcpcb.com/partdetail/C1631; ComponentLink3Description: LCSC Part URL; ComponentLink3URL: https://lcsc.com/product-detail/Multilayer-Ceramic-Capacitors-MLCC---SMD-SMT_FH-Guangdong-Fenghua-Advanced-Tech-FH-Guangdong-Fenghua-Advanced-Tech-0603B682K500NT_C1631.html
footprint CAP-0603 (0603 (1608M) Capacitor)
pins: 1, 2

## 0603CG3R0C500NT
designator C?  Capacitance: 3pF  (hidden comment: *)
Capacitor, Ceramic (MLCC), 3pF, ±0.25pF, 50V, C0G, ±0.25pF, SMD 0603; Manufacturer: FH(Guangdong Fenghua Advanced Tech); Manufacturer Part Number: 0603CG3R0C500NT; Package Size: 0603; JLCPCB Basic Part: Yes; JLCPCB Part Number: C46219; Supplier 1: LCSC; Category: Capacitors - MLCC; Supplier Part Number 1: C46219; Tolerance: ±0.25pF; Voltage Rating: 50V; Temperature Coefficient: C0G; RoHS: Yes; ComponentLink1Description: Datasheet; ComponentLink1URL: https://datasheet.lcsc.com/lcsc/1811061821_FH--Guangdong-Fenghua-Advanced-Tech-0603CG3R0C500NT_C46219.pdf; ComponentLink2Description: JLCPCB Part URL; ComponentLink2URL: https://jlcpcb.com/partdetail/C46219; ComponentLink3Description: LCSC Part URL; ComponentLink3URL: https://lcsc.com/product-detail/Multilayer-Ceramic-Capacitors-MLCC---SMD-SMT_FH-Guangdong-Fenghua-Advanced-Tech-FH-Guangdong-Fenghua-Advanced-Tech-0603CG3R0C500NT_C46219.html
footprint CAP-0603 (0603 (1608M) Capacitor)
pins: 1, 2

## 0603CG4R7C500NT
designator C?  Capacitance: 4.7pF  (hidden comment: *)
Capacitor, Ceramic (MLCC), 4.7pF, ±0.25pF, 50V, C0G, ±0.25pF, SMD 0603; Manufacturer: FH(Guangdong Fenghua Advanced Tech); Manufacturer Part Number: 0603CG4R7C500NT; Package Size: 0603; JLCPCB Basic Part: Yes; JLCPCB Part Number: C1669; Supplier 1: LCSC; Category: Capacitors - MLCC; Supplier Part Number 1: C1669; Tolerance: ±0.25pF; Voltage Rating: 50V; Temperature Coefficient: C0G; RoHS: Yes; ComponentLink1Description: Datasheet; ComponentLink1URL: https://datasheet.lcsc.com/lcsc/1810261624_FH--Guangdong-Fenghua-Advanced-Tech-0603CG4R7C500NT_C1669.pdf; ComponentLink2Description: JLCPCB Part URL; ComponentLink2URL: https://jlcpcb.com/partdetail/C1669; ComponentLink3Description: LCSC Part URL; ComponentLink3URL: https://lcsc.com/product-detail/Multilayer-Ceramic-Capacitors-MLCC---SMD-SMT_FH-Guangdong-Fenghua-Advanced-Tech-FH-Guangdong-Fenghua-Advanced-Tech-0603CG4R7C500NT_C1669.html
footprint CAP-0603 (0603 (1608M) Capacitor)
pins: 1, 2

## 0603CG6R0C500NT
designator C?  Capacitance: 6pF  (hidden comment: *)
Capacitor, Ceramic (MLCC), 6pF, ±0.25pF, 50V, C0G, ±0.25pF, SMD 0603; Manufacturer: FH(Guangdong Fenghua Advanced Tech); Manufacturer Part Number: 0603CG6R0C500NT; Package Size: 0603; JLCPCB Basic Part: Yes; JLCPCB Part Number: C37474; Supplier 1: LCSC; Category: Capacitors - MLCC; Supplier Part Number 1: C37474; Tolerance: ±0.25pF; Voltage Rating: 50V; Temperature Coefficient: C0G; RoHS: Yes; ComponentLink1Description: Datasheet; ComponentLink1URL: https://datasheet.lcsc.com/lcsc/1811061822_FH--Guangdong-Fenghua-Advanced-Tech-0603CG6R0C500NT_C37474.pdf; ComponentLink2Description: JLCPCB Part URL; ComponentLink2URL: https://jlcpcb.com/partdetail/C37474; ComponentLink3Description: LCSC Part URL; ComponentLink3URL: https://lcsc.com/product-detail/Multilayer-Ceramic-Capacitors-MLCC---SMD-SMT_FH-Guangdong-Fenghua-Advanced-Tech-FH-Guangdong-Fenghua-Advanced-Tech-0603CG6R0C500NT_C37474.html
footprint CAP-0603 (0603 (1608M) Capacitor)
pins: 1, 2

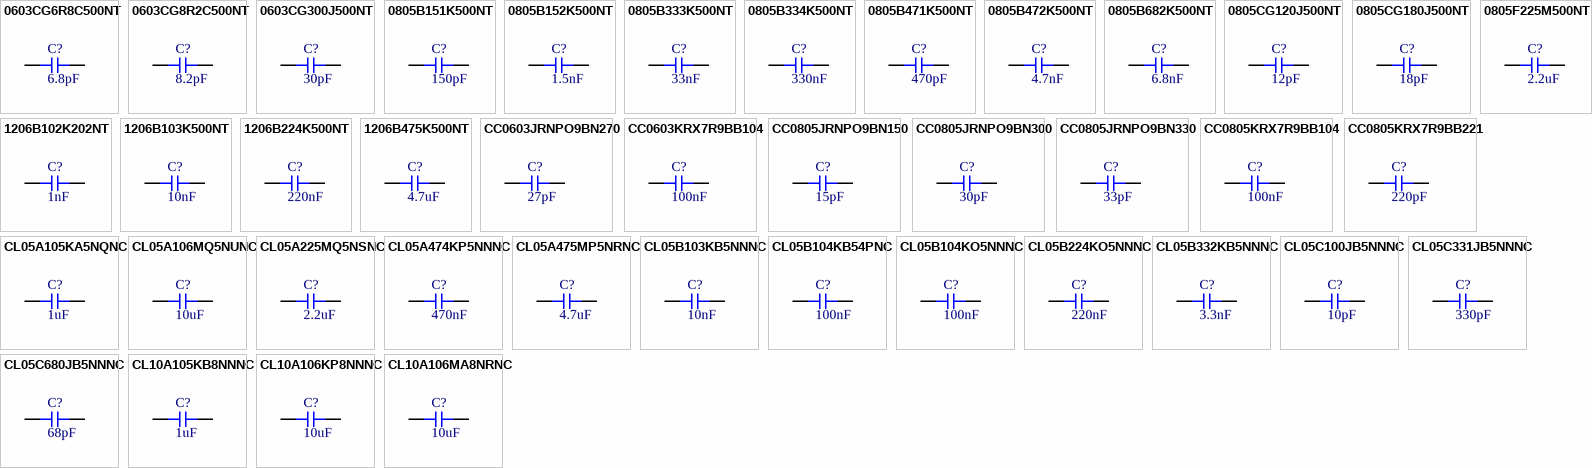
[diagram p1: symbols 0603CG6R8C500NT to CL10A106MA8NRNC]

## 0603CG6R8C500NT
designator C?  Capacitance: 6.8pF  (hidden comment: *)
Capacitor, Ceramic (MLCC), 6.8pF, ±0.25pF, 50V, C0G, ±0.25pF, SMD 0603; Manufacturer: FH(Guangdong Fenghua Advanced Tech); Manufacturer Part Number: 0603CG6R8C500NT; Package Size: 0603; JLCPCB Basic Part: Yes; JLCPCB Part Number: C1679; Supplier 1: LCSC; Category: Capacitors - MLCC; Supplier Part Number 1: C1679; Tolerance: ±0.25pF; Voltage Rating: 50V; Temperature Coefficient: C0G; RoHS: Yes; ComponentLink1Description: Datasheet; ComponentLink1URL: https://datasheet.lcsc.com/lcsc/1811061822_FH--Guangdong-Fenghua-Advanced-Tech-0603CG6R8C500NT_C1679.pdf; ComponentLink2Description: JLCPCB Part URL; ComponentLink2URL: https://jlcpcb.com/partdetail/C1679; ComponentLink3Description: LCSC Part URL; ComponentLink3URL: https://lcsc.com/product-detail/Multilayer-Ceramic-Capacitors-MLCC---SMD-SMT_FH-Guangdong-Fenghua-Advanced-Tech-FH-Guangdong-Fenghua-Advanced-Tech-0603CG6R8C500NT_C1679.html
footprint CAP-0603 (0603 (1608M) Capacitor)
pins: 1, 2

## 0603CG8R2C500NT
designator C?  Capacitance: 8.2pF  (hidden comment: *)
Capacitor, Ceramic (MLCC), 8.2pF, ±0.25pF, 50V, C0G, ±0.25pF, SMD 0603; Manufacturer: FH(Guangdong Fenghua Advanced Tech); Manufacturer Part Number: 0603CG8R2C500NT; Package Size: 0603; JLCPCB Basic Part: Yes; JLCPCB Part Number: C1685; Supplier 1: LCSC; Category: Capacitors - MLCC; Supplier Part Number 1: C1685; Tolerance: ±0.25pF; Voltage Rating: 50V; Temperature Coefficient: C0G; RoHS: Yes; ComponentLink1Description: Datasheet; ComponentLink1URL: https://datasheet.lcsc.com/lcsc/1811061811_FH--Guangdong-Fenghua-Advanced-Tech-0603CG8R2C500NT_C1685.pdf; ComponentLink2Description: JLCPCB Part URL; ComponentLink2URL: https://jlcpcb.com/partdetail/C1685; ComponentLink3Description: LCSC Part URL; ComponentLink3URL: https://lcsc.com/product-detail/Multilayer-Ceramic-Capacitors-MLCC---SMD-SMT_FH-Guangdong-Fenghua-Advanced-Tech-FH-Guangdong-Fenghua-Advanced-Tech-0603CG8R2C500NT_C1685.html
footprint CAP-0603 (0603 (1608M) Capacitor)
pins: 1, 2

## 0603CG300J500NT
designator C?  Capacitance: 30pF  (hidden comment: *)
Capacitor, Ceramic (MLCC), 30pF, ±5%, 50V, C0G, ±5%, SMD 0603; Manufacturer: FH(Guangdong Fenghua Advanced Tech); Manufacturer Part Number: 0603CG300J500NT; Package Size: 0603; JLCPCB Basic Part: Yes; JLCPCB Part Number: C1658; Supplier 1: LCSC; Category: Capacitors - MLCC; Supplier Part Number 1: C1658; Tolerance: ±5%; Voltage Rating: 50V; Temperature Coefficient: C0G; RoHS: Yes; ComponentLink1Description: Datasheet; ComponentLink1URL: https://datasheet.lcsc.com/lcsc/1810261611_FH--Guangdong-Fenghua-Advanced-Tech-0603CG300J500NT_C1658.pdf; ComponentLink2Description: JLCPCB Part URL; ComponentLink2URL: https://jlcpcb.com/partdetail/C1658; ComponentLink3Description: LCSC Part URL; ComponentLink3URL: https://lcsc.com/product-detail/Multilayer-Ceramic-Capacitors-MLCC---SMD-SMT_FH-Guangdong-Fenghua-Advanced-Tech-FH-Guangdong-Fenghua-Advanced-Tech-0603CG300J500NT_C1658.html
footprint CAP-0603 (0603 (1608M) Capacitor)
pins: 1, 2

## 0805B151K500NT
designator C?  Capacitance: 150pF  (hidden comment: *)
Capacitor, Ceramic (MLCC), 150pF, ±10%, 50V, X7R, ±10%, SMD 0805; Manufacturer: FH(Guangdong Fenghua Advanced Tech); Manufacturer Part Number: 0805B151K500NT; Package Size: 0805; JLCPCB Basic Part: Yes; JLCPCB Part Number: C1716; Supplier 1: LCSC; Category: Capacitors - MLCC; Supplier Part Number 1: C1716; Tolerance: ±10%; Voltage Rating: 50V; Temperature Coefficient: X7R; RoHS: Yes; ComponentLink1Description: Datasheet; ComponentLink1URL: https://datasheet.lcsc.com/lcsc/1811061722_FH--Guangdong-Fenghua-Advanced-Tech-0805B151K500NT_C1716.pdf; ComponentLink2Description: JLCPCB Part URL; ComponentLink2URL: https://jlcpcb.com/partdetail/C1716; ComponentLink3Description: LCSC Part URL; ComponentLink3URL: https://lcsc.com/product-detail/Multilayer-Ceramic-Capacitors-MLCC---SMD-SMT_FH-Guangdong-Fenghua-Advanced-Tech-FH-Guangdong-Fenghua-Advanced-Tech-0805B151K500NT_C1716.html
footprint CAP-0805 (0805 (2012M) Capacitor)
pins: 1, 2

## 0805B152K500NT
designator C?  Capacitance: 1.5nF  (hidden comment: *)
Capacitor, Ceramic (MLCC), 1.5nF, ±10%, 50V, X7R, ±10%, SMD 0805; Manufacturer: FH(Guangdong Fenghua Advanced Tech); Manufacturer Part Number: 0805B152K500NT; Package Size: 0805; JLCPCB Basic Part: Yes; JLCPCB Part Number: C1717; Supplier 1: LCSC; Category: Capacitors - MLCC; Supplier Part Number 1: C1717; Tolerance: ±10%; Voltage Rating: 50V; Temperature Coefficient: X7R; RoHS: Yes; ComponentLink1Description: Datasheet; ComponentLink1URL: https://datasheet.lcsc.com/lcsc/1811061723_FH--Guangdong-Fenghua-Advanced-Tech-0805B152K500NT_C1717.pdf; ComponentLink2Description: JLCPCB Part URL; ComponentLink2URL: https://jlcpcb.com/partdetail/C1717; ComponentLink3Description: LCSC Part URL; ComponentLink3URL: https://lcsc.com/product-detail/Multilayer-Ceramic-Capacitors-MLCC---SMD-SMT_FH-Guangdong-Fenghua-Advanced-Tech-FH-Guangdong-Fenghua-Advanced-Tech-0805B152K500NT_C1717.html
footprint CAP-0805 (0805 (2012M) Capacitor)
pins: 1, 2

## 0805B333K500NT
designator C?  Capacitance: 33nF  (hidden comment: *)
Capacitor, Ceramic (MLCC), 33nF, ±10%, 50V, X7R, ±10%, SMD 0805; Manufacturer: FH(Guangdong Fenghua Advanced Tech); Manufacturer Part Number: 0805B333K500NT; Package Size: 0805; JLCPCB Basic Part: Yes; JLCPCB Part Number: C1739; Supplier 1: LCSC; Category: Capacitors - MLCC; Supplier Part Number 1: C1739; Tolerance: ±10%; Voltage Rating: 50V; Temperature Coefficient: X7R; RoHS: Yes; ComponentLink1Description: Datasheet; ComponentLink1URL: https://datasheet.lcsc.com/lcsc/1811061723_FH--Guangdong-Fenghua-Advanced-Tech-0805B333K500NT_C1739.pdf; ComponentLink2Description: JLCPCB Part URL; ComponentLink2URL: https://jlcpcb.com/partdetail/C1739; ComponentLink3Description: LCSC Part URL; ComponentLink3URL: https://lcsc.com/product-detail/Multilayer-Ceramic-Capacitors-MLCC---SMD-SMT_FH-Guangdong-Fenghua-Advanced-Tech-FH-Guangdong-Fenghua-Advanced-Tech-0805B333K500NT_C1739.html
footprint CAP-0805 (0805 (2012M) Capacitor)
pins: 1, 2

## 0805B334K500NT
designator C?  Capacitance: 330nF  (hidden comment: *)
Capacitor, Ceramic (MLCC), 330nF, ±10%, 50V, X7R, ±10%, SMD 0805; Manufacturer: FH(Guangdong Fenghua Advanced Tech); Manufacturer Part Number: 0805B334K500NT; Package Size: 0805; JLCPCB Basic Part: Yes; JLCPCB Part Number: C1740; Supplier 1: LCSC; Category: Capacitors - MLCC; Supplier Part Number 1: C1740; Tolerance: ±10%; Voltage Rating: 50V; Temperature Coefficient: X7R; RoHS: Yes; ComponentLink1Description: Datasheet; ComponentLink1URL: https://datasheet.lcsc.com/lcsc/1811071214_FH--Guangdong-Fenghua-Advanced-Tech-0805B334K500NT_C1740.pdf; ComponentLink2Description: JLCPCB Part URL; ComponentLink2URL: https://jlcpcb.com/partdetail/C1740; ComponentLink3Description: LCSC Part URL; ComponentLink3URL: https://lcsc.com/product-detail/Multilayer-Ceramic-Capacitors-MLCC---SMD-SMT_FH-Guangdong-Fenghua-Advanced-Tech-FH-Guangdong-Fenghua-Advanced-Tech-0805B334K500NT_C1740.html
footprint CAP-0805 (0805 (2012M) Capacitor)
pins: 1, 2

## 0805B471K500NT
designator C?  Capacitance: 470pF  (hidden comment: *)
Capacitor, Ceramic (MLCC), 470pF, ±10%, 50V, X7R, ±10%, SMD 0805; Manufacturer: FH(Guangdong Fenghua Advanced Tech); Manufacturer Part Number: 0805B471K500NT; Package Size: 0805; JLCPCB Basic Part: Yes; JLCPCB Part Number: C1743; Supplier 1: LCSC; Category: Capacitors - MLCC; Supplier Part Number 1: C1743; Tolerance: ±10%; Voltage Rating: 50V; Temperature Coefficient: X7R; RoHS: Yes; ComponentLink1Description: Datasheet; ComponentLink1URL: https://datasheet.lcsc.com/lcsc/1811110920_FH--Guangdong-Fenghua-Advanced-Tech-0805B471K500NT_C1743.pdf; ComponentLink2Description: JLCPCB Part URL; ComponentLink2URL: https://jlcpcb.com/partdetail/C1743; ComponentLink3Description: LCSC Part URL; ComponentLink3URL: https://lcsc.com/product-detail/Multilayer-Ceramic-Capacitors-MLCC---SMD-SMT_FH-Guangdong-Fenghua-Advanced-Tech-FH-Guangdong-Fenghua-Advanced-Tech-0805B471K500NT_C1743.html
footprint CAP-0805 (0805 (2012M) Capacitor)
pins: 1, 2